# EAGLE library part AVR_ICSP (library BaseApp)
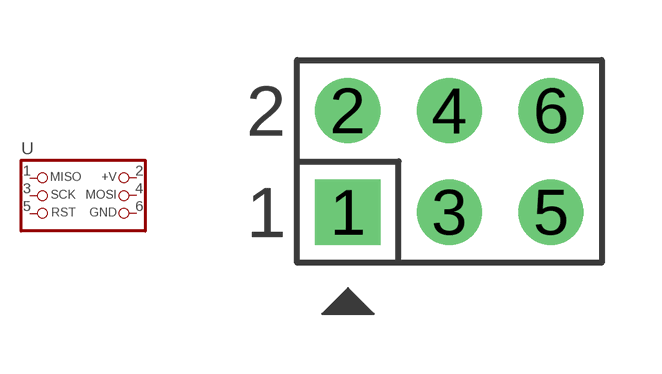
[diagram p127: symbol with the pads of AVR_ICSP_PTH; footprint AVR_ICSP_PTH]

Designator prefix -

## AVR_ICSP (DIGIKEY: 952-2121-ND; PRICE_PER_UNIT: 0.23)  [AVR_ICSP_PTH]
1  MISO  pas
2  +V  pas
3  SCK  pas
4  MOSI  pas
5  RST  pas
6  GND  pas

## Footprint AVR_ICSP_PTH (pad centres in mm)
drill 1.02 pad 1.632 square: 1 -2.54,-1.27
drill 1.02 pad 1.632: 2 -2.54,1.27; 3 0,-1.27; 4 0,1.27; 5 2.54,-1.27; 6 2.54,1.27